# Altium footprint library PcbLibWifiPumpSteering.PcbLib: 5 footprints
Each footprint in its own frame and in the unit in brackets; x right, y up, seen from the top. Pads: shape width x height; smd on the part's side, far side on the other; paste and mask are expansions set on the pad; w line width, h text height; cw(c..) or ccw(c..) is an arc to the next point about the centre after c.
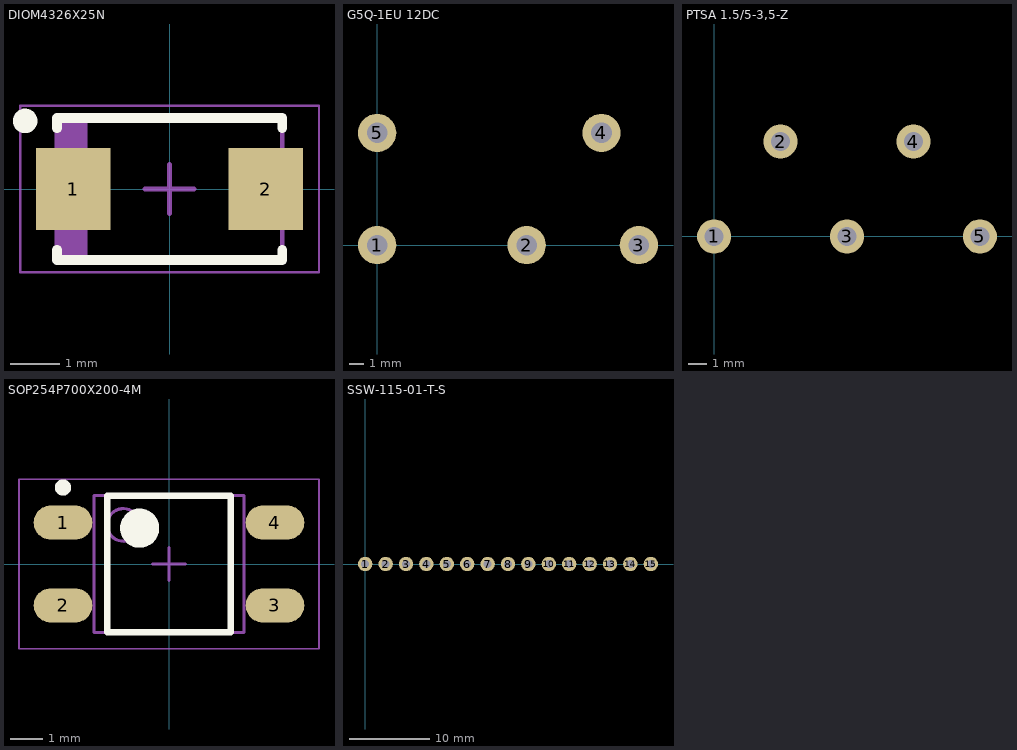
[diagram p0: the footprints below, top view; thin cyan lines are the x and y axes]

## DIOM4326X25N [mm] "Molded Diode, 2-Leads, Body 4,33x2,56mm, IPC Medium Density"
height 2.5
pads (2):
  rect 1.52x1.68 smd: 1(-1.965,0) 2(1.965,0)
Top Overlay:
  circle w0.25: c-2.95,1.39 r0.125
  lines w0.2: -2.3,-1.24 -2.3,-1.45 2.3,-1.45 2.3,-1.24 ; -2.3,1.24 -2.3,1.45 2.3,1.45 2.3,1.24
Mechanical 13:
  rectangle: -2.3,-1.415 -1.681,1.415
  lines w0.1: -2.3,-1.415 2.3,-1.415 2.3,1.415 -2.3,1.415 -2.3,-1.415
Mechanical 15:
  lines w0.05: -3.05,-1.7 3.05,-1.7 3.05,1.7 -3.05,1.7 -3.05,-1.7
  lines w0.1: -0.5,0 0.5,0 ; 0,-0.5 0,0.5
3D body "DIOM4326X25N.step": height 2.5, standoff 0, extent -2.52,-1.415 2.52,1.415

## G5Q-1EU 12DC [mm] "G5Q-1EU 12DC"
pads (5):
  round 2.6 hole 1.4 paste+0 mask+0: 1(0,0) 2(10.16,0) 3(17.78,0) 4(15.24,7.62) 5(0,7.62)
3D body "G5Q_1_EU.step": height 16.21, standoff -3.39, extent -1.26,-1.397 19.04,8.903

## PTSA 1.5/5-3,5-Z [mm] "PTSA 1.5/5-3,5-Z"
pads (5):
  round 1.8 hole 1 paste+0 mask+0: 1(0,0) 2(3.5,5) 3(7,0) 4(10.5,5) 5(14,0)
3D body "pxc_1985221_04_PTSA-1-5-5-3-5-Z_3D.stp": height 13.11, standoff -3.49, extent -3.3,-4.675 15.7,7.325

## SOP254P700X200-4M [mm] "SOP, 4-Leads, Body 3,85x4,40mm, Pitch 2,54mm, IPC Low Density"
height 2
pads (4):
  oval 1.8x1.05 smd: 1(-3.25,1.27) 2(-3.25,-1.27) 3(3.25,-1.27) 4(3.25,1.27)
Top Overlay:
  circle w0.25: c-3.25,2.345 r0.125
  circle w0.6: c-0.9,1.1 r0.3
  lines w0.2: -1.9,-2.1 -1.9,2.1 1.9,2.1 1.9,-2.1 -1.9,-2.1
Mechanical 13:
  circle w0.1: c-1.4,1.2 r0.5
  lines w0.1: -2.3,-2.1 -2.3,2.1 2.3,2.1 2.3,-2.1 -2.3,-2.1
Mechanical 15:
  lines w0.05: -4.6,-2.6 -4.6,2.6 4.6,2.6 4.6,-2.6 -4.6,-2.6
  lines w0.1: -0.5,0 0.5,0 ; 0,-0.5 0,0.5
3D body "SOP254P700X200-4M.step": height 2, standoff 0, extent -3.487,-2.1 3.487,2.1

## SSW-115-01-T-S [mm] "SSW-115-01-T-S"
pads (15):
  round 1.8 hole 1 paste+0 mask+0: 1(0,0) 2(2.54,0) 3(5.08,0) 4(7.62,0) 5(10.16,0) 6(12.7,0) 7(15.24,0) 8(17.78,0) 9(20.32,0) 10(22.86,0) 11(25.4,0) 12(27.94,0) 13(30.48,0) 14(33.02,0) 15(35.56,0)
3D body: height 28.94, standoff -28.94, extent 19.5,-5.5 19.5,-5.5
3D body: height 28.94, standoff -28.94, extent 6.5,6 6.5,6
3D body "SSW-115-01-T-S-005.stp": height 8.52, standoff -2.63, extent -1.524,-1.207 37.084,1.207